# Altium schematic symbol library 30R400UMR.SchLib: 1 symbol
Pins are listed as number, name and electrical type; pins without a type are passive.

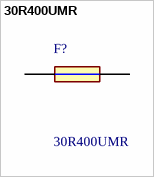
[diagram p0: symbol 30R400UMR]

## 30R400UMR
designator F?
PTC Resettable Fuse 4A(hold) 8A(trip) 30VDC 40A 2.5W 12.7s 0.01Ohm Radial 14 X 3 X 22mm Ammo Automotive; Manufacturer_Name: LITTELFUSE; Mouser Part Number: 576-30R400UMR; Mouser Price/Stock: https://www.mouser.co.uk/ProductDetail/Littelfuse/30R400UMR?qs=PWhpLWeW8wcamUEdDq33Sg%3D%3D; Manufacturer_Part_Number: 30R400UMR; Datasheet Link: *; Geometry.Height: 22mm
footprint 30R400UMR
pins: 1, 2